# Altium schematic symbol library Other-Mark.SchLib: 1 symbol
Pins are listed as number, name and electrical type; pins without a type are passive.

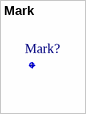
[diagram p0: symbol Mark]

## Mark
designator Mark?  (no BOM)